# Altium footprint library lab_6.PcbLib: 4 footprints
Each footprint in its own frame and in the unit in brackets; x right, y up, seen from the top. Pads: shape width x height; smd on the part's side, far side on the other; paste and mask are expansions set on the pad; w line width, h text height; cw(c..) or ccw(c..) is an arc to the next point about the centre after c.
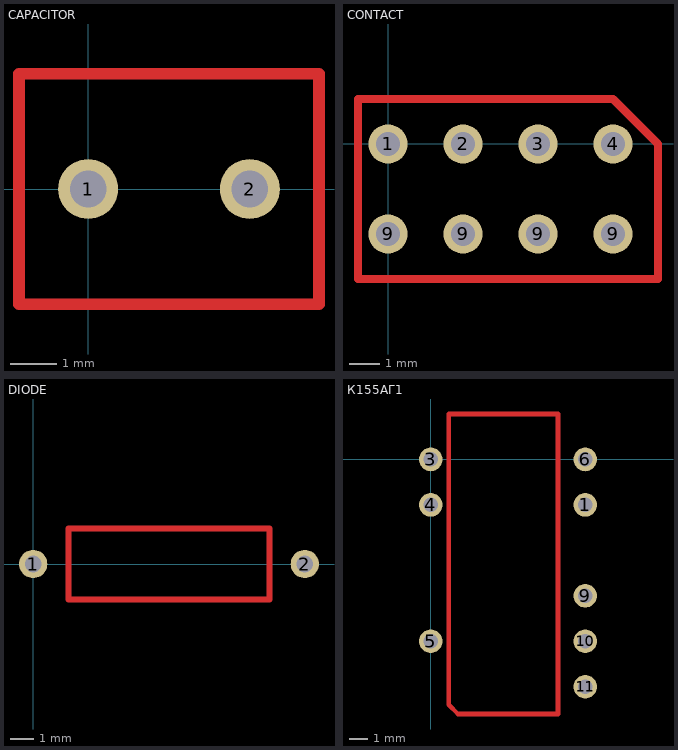
[diagram p0: the footprints below, top view; thin cyan lines are the x and y axes]

## CAPACITOR [mm]
pads (2):
  round 1.3 hole 0.8: 1(0,0) 2(3.5,0)
Top Layer:
  lines w0.254: -1.5,-2.5 -1.5,2.5 5,2.5 5,0 5,-2.5 -1.5,-2.5

## CONTACT [mm]
pads (8):
  round 1.3 hole 0.8: 1(0,0) 2(2.5,0) 3(5,0) 9(0,-3) 9(2.5,-3) 9(5,-3) 9(7.5,-3)
  round 1.3 hole 0.8 square: 4(7.5,0)
Top Layer:
  lines w0.254: -1,-4.5 9,-4.5 9,0 7.5,1.5 -1,1.5 -1,0.5 -1,-4.5

## DIODE [mm]
pads (2):
  round 1.2 hole 0.7: 1(0,0) 2(11.5,0)
Top Layer:
  lines w0.254: 1.5,-1.5 1.5,1.5 10,1.5 10,-1.5 1.5,-1.5

## К155АГ1 [mm]
pads (8):
  round 1.3 hole 0.8: 1(8.5,-2.5) 3(0,0) 4(0,-2.5) 5(0,-10) 6(8.5,0) 9(8.5,-7.5) 10(8.5,-10) 11(8.5,-12.5)
Top Layer:
  lines w0.254: 1,-13.5 1,2.5 7,2.5 7,-14 1.5,-14 1,-13.5